# Altium footprint library LYDZ.PcbLib: 231 footprints (part 3 of 15)
Each footprint in its own frame and in the unit in brackets; x right, y up, seen from the top. Pads: shape width x height; smd on the part's side, far side on the other; paste and mask are expansions set on the pad; w line width, h text height; cw(c..) or ccw(c..) is an arc to the next point about the centre after c.
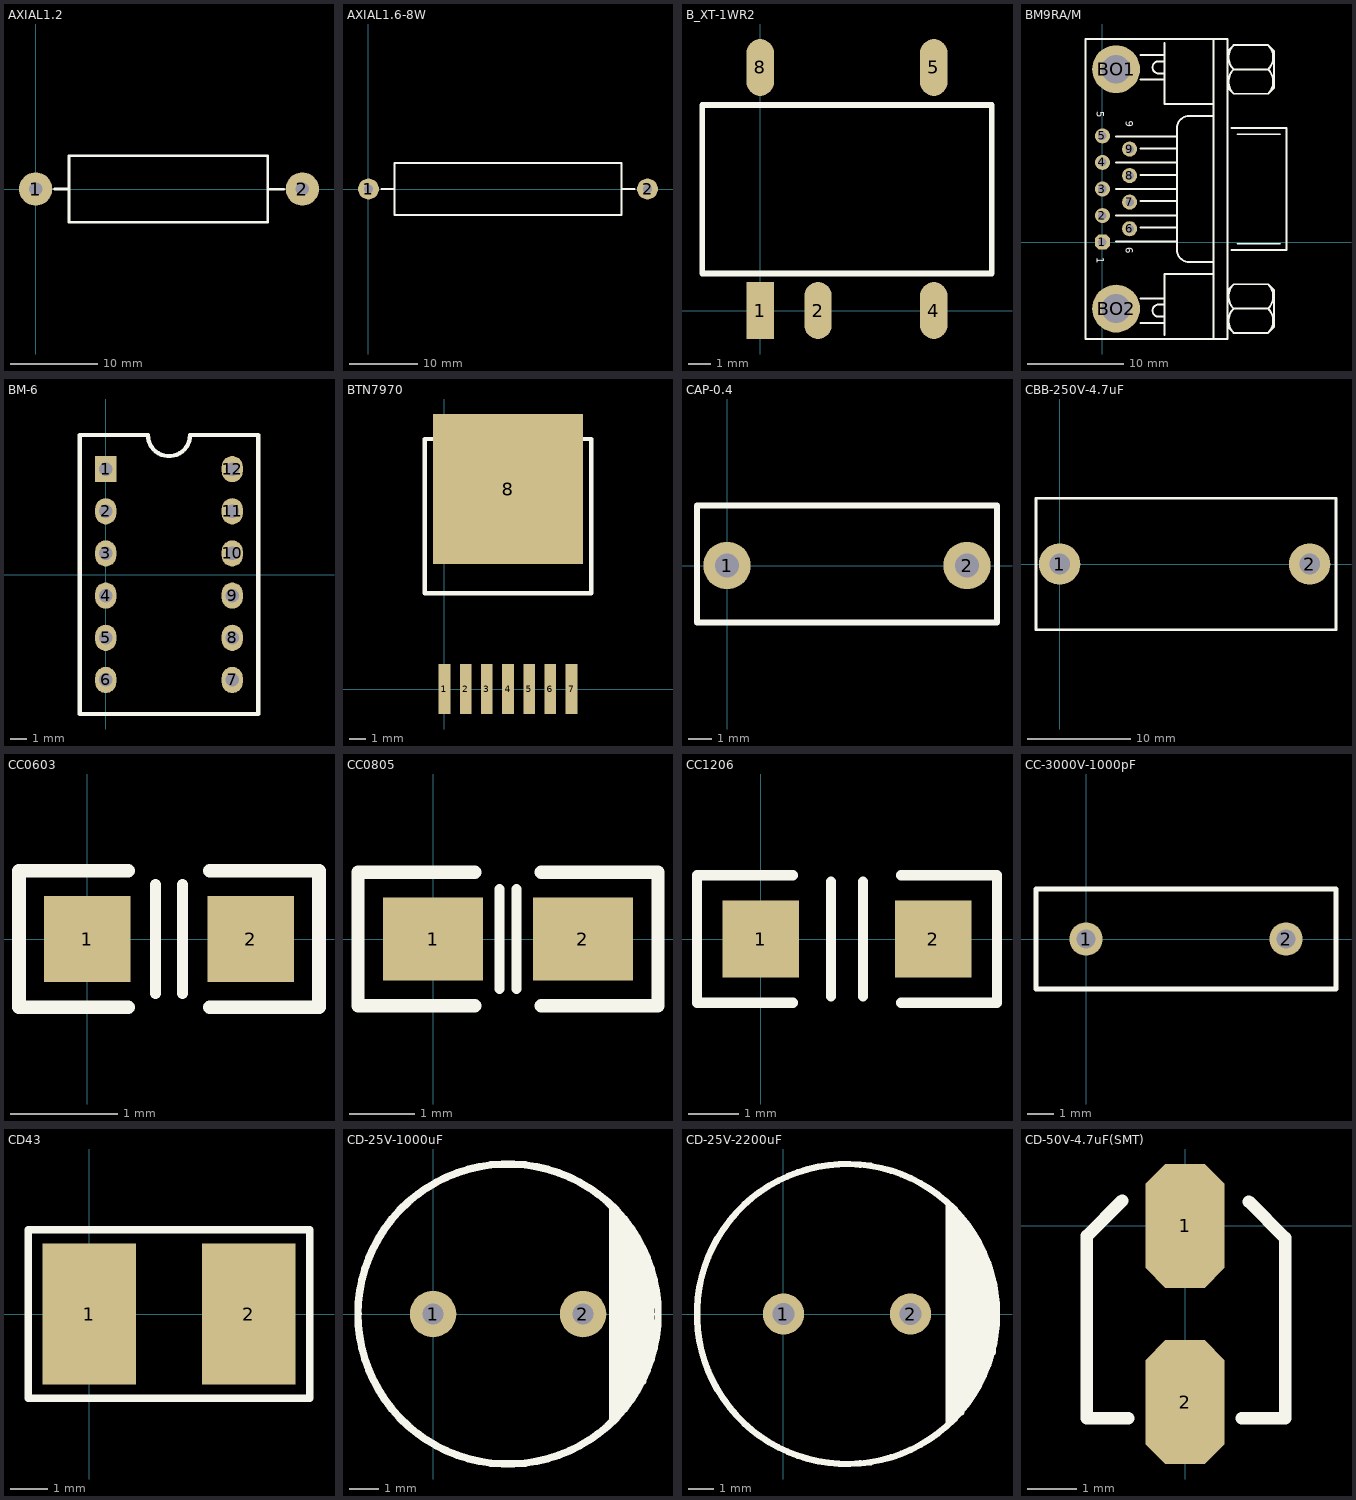
[diagram p2: the footprints below, top view; thin cyan lines are the x and y axes]

## AXIAL1.2 [mil]
pads (2):
  round 150 hole 60: 1(0,1) 2(1200,1)
Top Overlay:
  lines w12: 85,1 150,1 ; 1050,0 1115,0 ; 150,-149 150,151 1045,151 1045,-149 150,-149

## AXIAL1.6-8W [mil]
pads (2):
  round 120 hole 50: 1(0,0) 2(1600,0)
Top Overlay:
  lines w10: 465,-150 485,-150 ; 465,150 485,150
  lines w12: 75,0 150,0 ; 1450,0 1525,0 ; 150,-150 150,150 1450,150 1450,-150 150,-150

## B_XT-1WR2 [mm]
pads (5):
  rect 1.2x2.5 smd: 1(0,0)
  oval 1.2x2.5 smd: 2(2.54,0) 4(7.62,0) 5(7.62,10.668) 8(0,10.668)
Top Overlay:
  lines w0.254: -2.54,1.626 -2.54,9.017 10.16,9.017 10.16,1.626 -2.54,1.626

## BM9RA/M [mil]
pads (11):
  oct 62x62 hole 35: 1(0,0)
  round 62 hole 35: 2(0,109.17) 3(0,218.33) 4(0,327.5) 5(0,436.67) 6(111.67,55) 7(111.67,164.17) 8(111.67,273.33) 9(111.67,382.5)
  round 196.67 hole 118.33: BO1(55.83,710.83) BO2(55.83,-273.33)
Top Overlay:
  lines w8: 55.83,1.67 305.83,1.67 ; 55.83,110 305.83,110 ; 55.83,218.33 305.83,218.33 ; 55.83,326.67 305.83,326.67 ; 55.83,435 305.83,435 ; 155.83,-331.67 255.83,-331.67 ; 155.83,-231.67 255.83,-231.67 ; 155.83,60 305.83,60 ; 155.83,168.33 305.83,168.33 ; 155.83,276.67 305.83,276.67 ; 155.83,385 305.83,385 ; 155.83,668.33 255.83,668.33 ; 155.83,768.33 255.83,768.33 ; 255.83,-381.67 255.83,-131.67 455.83,-131.67 ; 255.83,-306.67 230.83,-306.67 cw(c230.83,-281.67) 230.83,-256.67 255.83,-256.67 ; 255.83,693.33 230.83,693.33 cw(c230.83,718.33) 230.83,743.33 255.83,743.33 ; 255.83,818.33 255.83,568.33 455.83,568.33 ; 455.83,-398.33 455.83,835 ; 455.83,-81.67 355.83,-81.67 cw(c355.83,-31.67) 305.83,-31.67 305.83,468.33 cw(c355.83,468.33) 355.83,518.33 455.83,518.33 ; 514.17,-348.33 539.17,-373.33 680.83,-373.33 705.83,-348.33 705.83,-198.33 680.83,-173.33 539.17,-173.33 514.17,-198.33 ; 514.17,635 539.17,610 680.83,610 705.83,635 705.83,785 680.83,810 539.17,810 514.17,785 ; 530.83,-31.67 755.83,-31.67 755.83,468.33 530.83,468.33 ; 539.08,-373.42 cw(c589.17,-323.33) 539.08,-273.25 ; 539.08,-273.42 cw(c589.17,-223.33) 539.08,-173.25 ; 539.08,609.91 cw(c589.17,660) 539.08,710.09 ; 539.08,709.91 cw(c589.17,760) 539.08,810.09 ; 539.17,-273.33 680.83,-273.33 ; 539.17,710 680.83,710 ; 555.83,-6.67 730.83,-6.67 ; 555.83,443.33 730.83,443.33 ; 680.92,-373.42 ccw(c630.83,-323.33) 680.92,-273.25 ; 680.92,-273.42 ccw(c630.83,-223.33) 680.92,-173.25 ; 680.92,609.91 ccw(c630.83,660) 680.92,710.09 ; 680.92,709.91 ccw(c630.83,760) 680.92,810.09 ; -69.17,-398.33 514.17,-398.33 514.17,835 -69.17,835 -69.17,-398.33
  text "9" at 95.83,498.33 h30
  text "5" at -24.17,538.33 h30
  text "1" at -24.17,-61.67 h30
  text "6" at 95.83,-21.67 h30

## BM-6 [mil]
pads (12):
  rect 50x62 hole 32: 1(0,250)
  oval 50x62 hole 32: 2(0,150) 3(0,50) 4(0,-50) 5(0,-150) 6(0,-250) 7(300,-250) 8(300,-150) 9(300,-50) 10(300,50) 11(300,150) 12(300,250)
Top Overlay:
  lines w10: -61.81,-330.71 361.81,-330.71 361.81,330.71 200,330.71 cw(c150,330.71) 100,330.71 -61.81,330.71 -61.81,-330.71

## BTN7970 [mm]
pads (8):
  rect 0.7x3 smd: 1(0,0) 2(1.27,0) 3(2.54,0) 4(3.81,0) 5(5.08,0) 6(6.35,0) 7(7.62,0)
  rect 9x9 smd: 8(3.81,12)
Top Overlay:
  lines w0.254: -1.19,5.75 8.81,5.75 8.81,15 -1.19,15 -1.19,5.75

## CAP-0.4 [mm]
pads (2):
  round 2 hole 1: 1(0,0) 2(10.16,0)
Top Overlay:
  lines w0.254: -1.27,-2.413 -1.27,2.54 11.43,2.54 11.43,-2.413 -1.27,-2.413

## CBB-250V-4.7uF [mm]
pads (2):
  round 4 hole 2: 1(0,0) 2(24.13,0)
Top Overlay:
  lines w0.254: -2.286,-6.35 -2.286,6.35 26.67,6.35 26.67,-6.35 -2.286,-6.35

## CC0603 [mm]
height 2.2
pads (2):
  rect 0.805x0.805 smd: 1(0,0) 2(1.524,0)
Top Overlay:
  lines w0.102: 0.635,-0.508 0.635,0.508 ; 0.889,-0.508 0.889,0.508
  lines w0.127: 0.381,-0.635 -0.635,-0.635 -0.635,0.635 0.381,0.635 ; 1.143,-0.635 2.159,-0.635 2.159,0.635 1.143,0.635

## CC0805 [mil]
height 86.61
pads (2):
  rect 60x50 smd: 1(0,0) 2(90,0)
Top Overlay:
  lines w6: 40,-30 40,30 ; 50,-30 50,30
  lines w8: 25,-40 -45,-40 -45,40 25,40 ; 65,-40 135,-40 135,40 65,40

## CC1206 [mil]
pads (2):
  rect 60x60 smd: 1(0,0) 2(135,0)
Top Overlay:
  lines w8: 25,-50 -50,-50 -50,50 25,50 ; 55,-45 55,45 ; 80,-45 80,45 ; 110,-50 185,-50 185,50 110,50

## CC-3000V-1000pF [mil]
pads (2):
  round 50 hole 28: 1(0,0) 2(300,0)
Top Overlay:
  lines w7.87: -75,-75 -75,75 375,75 375,-75 -75,-75

## CD43 [mil]
pads (2):
  rect 100x150 smd: 1(0,0) 2(170,0)
Top Overlay:
  lines w8: -65,-90 235,-90 235,90 -65,90 -65,-90

## CD-25V-1000uF [mil]
pads (2):
  round 62 hole 28: 1(0,0) 2(200,0)
Top Overlay:
  circle w10: c100,0 r200
  lines w10: 240,-140 240,140 ; 250,-130 250,130 ; 260,-120 260,120 ; 270,-105 270,105 ; 280,-90 280,85 ; 290,-60 290,60

## CD-25V-2200uF [mil]
pads (2):
  round 65 hole 35: 1(0,0) 2(200,0)
Top Overlay:
  circle w10: c100,0 r236.22
  lines w10: 260,-170 260,170 ; 270,-165 270,165 ; 280,-155 280,150 ; 290,-140 290,140 ; 300,-125 300,125 ; 310,-105 310,105 ; 320,-85 320,85 ; 330,-60 330,45 330,55

## CD-50V-4.7uF(SMT) [mm]
pads (2):
  oct 1.6x2.5 smd: 1(0,0) 2(0,-3.556)
Top Overlay:
  lines w0.254: -1.27,0.508 -1.981,-0.203 -1.981,-3.886 -1.143,-3.886 ; 1.143,-3.886 2.019,-3.886 2.019,-0.241 1.288,0.49